# Altium schematic symbol library Discrete_Inductor.SchLib: 31 symbols
Pins are listed as number, name and electrical type; pins without a type are passive.

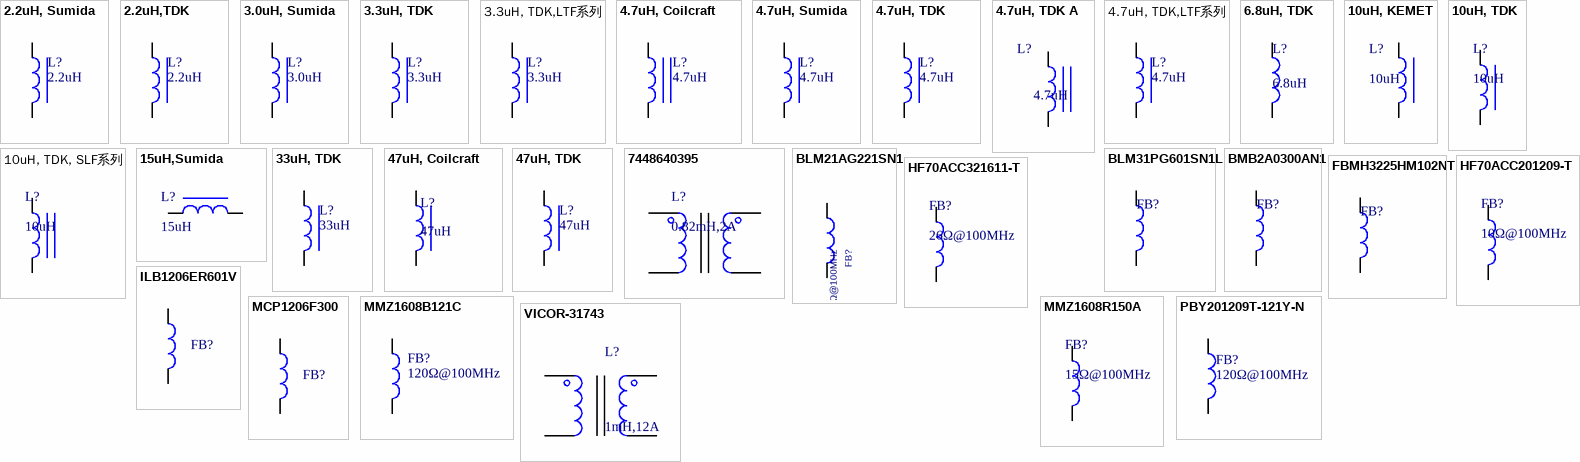
[diagram p0: symbols 2.2uH, Sumida to VICOR-31743]

## 2.2uH, Sumida
designator L?, comment 2.2uH
功率电感, 2.2uH, 31.3mΩ, 2.04A, 30%,5x5mm; Manufacturer: sumida; Ordering NO.: CDRH4D28NP-2R2NC; Name: 电感
footprint L5*5 (Footprint not found)
pins: 1, 2

## 2.2uH,TDK
designator L?, comment 2.2uH
功率电感, 2.2uH, 0.076Ω, 1.5A, 20%,3.5x3.7mm; Manufacturer: TDK; Ordering NO.: VLF4012AT-2R2M1R5; Name: 电感; Price: 1.5
footprint L3.5*3.7 (磁罐电感3.5*3.7mm厚1.2mm表贴电感)
pins: 1, 2

## 3.0uH, Sumida
designator L?, comment 3.0uH
功率电感, 3.0uH, 24mΩ, 2.4A, 30%,6x6mm(MAX); Manufacturer: sumida; Ordering NO.: CDRH5D28NP-3R0NC; Name: 电感
footprint L6*6 (Footprint not found)
pins: 1, 2

## 3.3uH, TDK
designator L?, comment 3.3uH
功率电感, 3.3uH, 0.1Ω, 1.3A, 20%,3.5x3.7mm; Manufacturer: TDK; Ordering NO.: VLF4012AT-3R3M1R3; Tips: 1A型%20,3.5x3.7mm; Name: 电感; Price: 1.5; 物料替代型号: n/a
footprint L3.5*3.7 (磁罐电感3.5*3.7mm厚1.2mm表贴电感)
pins: 1, 2

## 3.3uH, TDK,LTF系列
designator L?, comment 3.3uH
功率电感, 3.3uH, 0.1Ω, 1.3A, 20%,3.5x3.7mm; Manufacturer: TDK; Ordering NO.: LTF5022T-3R3N2R5-LC; Name: 电感
footprint L5.0*5.2 (Footprint not found)
pins: 1, 2

## 4.7uH, Coilcraft
designator L?, comment 4.7uH
功率电感, 4.7uH, 43mΩ, 方形罐装6.1 × 6.1 mm; Manufacturer: Coilcraft; Ordering NO.: MSS6132-472ML; Name: 电感
footprint L6.1*6.1 (Footprint not found)
pins: 1, 2

## 4.7uH, Sumida
designator L?, comment 4.7uH
功率电感, 4.7uH, 72mΩ, 1.32A, 30%,5x5mm; Manufacturer: sumida; Ordering NO.: CDRH4D28NP-4R7NC; Name: 电感
footprint L5*5 (Footprint not found)
pins: 1, 2

## 4.7uH, TDK
designator L?, comment 4.7uH
功率电感, 4.7uH, 0.14Ω, 1.1A, 3.5x3.7mm; Manufacturer: TDK; Ordering NO.: VLF4012AT-4R7M1R1; Tips: 1A型%20,3.5x3.7mm; Name: 电感; Price: 1.5; 物料替代型号: n/a
footprint L3.5*3.7 (磁罐电感3.5*3.7mm厚1.2mm表贴电感)
pins: 1, 2

## 4.7uH, TDK A
designator L?, comment 4.7uH
功率电感, 4.7uH, 方形罐装 7.1mm × 6.1 mm; Manufacturer: TDK; Ordering NO.: SPM6530T4R7M230; Name: 电感
footprint L 7.1*6.5
pins: 1, 2

## 4.7uH, TDK,LTF系列
designator L?, comment 4.7uH
功率电感, 4.7uH, 0.14Ω, 1.1A, 3.5x3.7mm; Manufacturer: TDK; Ordering NO.: LTF5022T-4R7N2R0-LC; Name: 电感
footprint L5.0*5.2 (Footprint not found)
pins: 1, 2

## 6.8uH, TDK
designator L?, comment 6.8uH
Manufacturer: muRata; Ordering NO.: LQM31PN4R7M00; Name: 电感
footprint L1206 (贴片磁珠1206, 120 x 60 mil)
pins: 1, 2

## 10uH, KEMET
designator L?, comment 10uH
片式电感, 10uH, ±20%, 1.2Ω, 0.24A, 0805; Manufacturer: KEMET; Ordering NO.: L0805C100MDWIT; Tips: 10uH电源用电感; Name: 电感
footprint L0805 (贴片电感或磁珠0805,80 x 50mil)
pins: 1, 2

## 10uH, TDK
designator L?, comment 10uH
功率电感, 10uH, 1.15Ω, 0.4A; Manufacturer: TDK; Ordering NO.: VLS201610ET-100M; Name: 电感
footprint L0806 (2mmX1.6mm)
pins: 1, 2

## 10uH, TDK, SLF系列
designator L?, comment 10uH
功率电感, 10uH, 0.0364Ω, 2.5A, 10.1mmx10.1mm; Manufacturer: TDK; Ordering NO.: SLF10145T-100M2R5-PF; Name: 电感
footprint L10.1*10.1 (10.1mmX10.1mm)
pins: 1, 2

## 15uH,Sumida
designator L?, comment 15uH
功率电感, 15uH,  41mΩ, 3.4A, 方形罐装, 10.3mm × 10.5mm; Manufacturer: Sumida; Ordering NO.: CDRH105R-150; Name: 电感
footprint L10.3*10.5 (sumida公司功率电感封装)
pins: 1, 2

## 33uH, TDK
designator L?, comment 33uH
功率电感, 33uH, 1.2Ω, 0.44A, 3.5x3.7mm; Manufacturer: TDK; Ordering NO.: VLF4012AT-330MR39; Tips: 1A型%20,3.5x3.7mm; Name: 电感; Price: 1.5; 物料替代型号: n/a
footprint L3.5*3.7 (磁罐电感3.5*3.7mm厚1.2mm表贴电感)
pins: 1, 2

## 47uH, Coilcraft
designator L?, comment 47uH
功率电感, 47uH, 0.1Ω, 1.85A, 方形罐装; Manufacturer: Coilcraft; Ordering NO.: MMS1206-473MXD/B; Name: 电感; Price: 0.21
footprint L0805 (贴片电感或磁珠0805,80 x 50mil)
pins: 1, 2

## 47uH, TDK
designator L?, comment 47uH
功率电感, 47uH, 0.2Ω, 0.36A, 3.5x3.7mm; Manufacturer: TDK; Ordering NO.: VLF4012AT-470MR30; Tips: 1A型%20,3.5x3.7mm; Name: 电感; Price: 1.5; 物料替代型号: n/a
footprint L3.5*3.7 (磁罐电感3.5*3.7mm厚1.2mm表贴电感)
pins: 1, 2

## 7448640395
designator L?, comment 0.82mH,2A
共模电感,0.82mH,2A,Current Compensated Choke; Manufacturer: WE; Ordering No.: 7448640395; Name: 共模电感
footprint INDC-13
pins: 1, 2, 3, 4

## BLM21AG221SN1
designator FB?, comment 220Ω@100MHz
磁珠,IND - SMD EMI Filters/Chip Ferrite Bead, 220Ω(Impedance) @ 100MHz, 0.35Ω (DC Resistance),0805; Manufacturer: Murata; Ordering NO.: BLM21AG221SN1; Item Num: P04-16225R; RoHS Compliant: Yes; Price: 0; Name: 磁珠
footprint L0805 (贴片电感或磁珠0805,80 x 50mil)
pins: 1, 2

## BLM31PG601SN1L
designator FB?, comment 600Ω@100MHz  (value not drawn)
高电流片式电源线磁珠, 600Ω(Impedance)@100MHz,  0.09Ω(DC Resistance), 1.5A, 1206; Manufacturer: Murata; Ordering NO.: BLM31PG601SN1L; Name: 磁珠
footprint L1206 (贴片电感或磁珠1206, 120 x 60 mil)
pins: 1, 2

## BMB2A0300AN1
designator FB?, comment 300Ω@100MHz  (value not drawn)
磁珠, 300Ω(Impedance)@100MHz,  0.5Ω(DC Resistance), 250mA, 0805; Manufacturer: TE; Ordering NO.: BMB2A0300AN1; Tips: 配合AD5422使用; Name: 磁珠
footprint L0805 (贴片电感或磁珠0805,80 x 50mil)
pins: 1, 2

## FBMH3225HM102NT
designator FB?, comment 1000Ω@100MHz  (value not drawn)
高电流片式电源线磁珠, 1000Ω(Impedance)@100MHz,  0.1Ω(DC Resistance), 2A, 1210; Manufacturer: Taiyo Yuden; Ordering NO.: FBMH3225HM102NT; Tips: 配合AD5422使用; Name: 磁珠
footprint L1210 (Footprint not found)
pins: 1, 2

## HF70ACC201209-T
designator FB?, comment 10Ω@100MHz
磁珠, 10Ω(Impedance)@100MHz, 0.03Ω(DC resistance),1.5A, 0805; Manufacturer: TDK; 物料替代型号: HF50ACC201209; Ordering NO.: HF70ACC201209-T; Tips: 电源型26R@100MHz,40mR,1.5A,2000/卷; Price: 0.80; Name: 磁珠
footprint L0805 (贴片电感或磁珠0805,80 x 50mil)
pins: 1, 2

## HF70ACC321611-T
designator FB?, comment 26Ω@100MHz
磁珠, 26Ω(Impedance)@100MHz, 0.04Ω(DC resistance),1.5A, 1206; Manufacturer: TDK; Ordering NO.: HF70ACC321611-T; Tips: 电源型26R@100MHz,40mR,1.5A,; Price: 0.80; 物料替代型号: n/a; Name: 磁珠
footprint L1206 (贴片磁珠1206, 120 x 60 mil)
pins: 1, 2

## ILB1206ER601V
designator FB?, comment 600Ω@100MHz  (value not drawn)
磁珠, 600Ω(Impedance)@100MHz,1206; Manufacturer: VISHAY; Ordering NO.: ILB1206ER601V; Name: 磁珠
footprint L1206 (贴片磁珠1206, 120 x 60 mil)
pins: 1, 2

## MCP1206F300
designator FB?, comment 30Ω@100MHz  (value not drawn)
磁珠, 30Ω(Impedance)@100MHz, 0.02Ω(DC resistance), 4A, 1206; Manufacturer: AEM; Ordering NO.: MCP1206F300; Name: 磁珠
footprint L1206 (Footprint not found)
pins: 1, 2

## MMZ1608B121C
designator FB?, comment 120Ω@100MHz
磁珠, 120Ω(Impedance)@100MHz,0.15Ω(DC resistance), 0.6A,0603; Manufacturer: TDK; Ordering NO.: MMZ1608B121C; Price: 0.21; Name: 磁珠
footprint L0603 (贴边电感0603或磁珠,60 x 30 mil)
pins: 1, 2

## MMZ1608R150A
designator FB?, comment 15Ω@100MHz
磁珠, 15Ω(Impedance)@100MHz, 0.05Ω(DC resistance),1.5A, 0603; Manufacturer: TDK; 物料替代型号: MMZ1608R300A/0603; Ordering NO.: MMZ1608R150A; Tips: 电源型15R@100MHz,50mR,1.5A,2000/卷; Price: 0.80; Name: 磁珠
footprint L0603 (贴边电感0603或磁珠,60 x 30 mil)
pins: 1, 2

## PBY201209T-121Y-N
designator FB?, comment 120Ω@100MHz
磁珠, 120Ω(Impedance)@100MHz, 0.04Ω(DC resistance), 3A, 0805; Manufacturer: YAGEO CORPORATION; Ordering NO.: PBY201209T-121Y-N; Name: 磁珠
footprint L0805
pins: 1, 2

## VICOR-31743
designator L?, comment 1mH,12A
共模电感 1mH 12A; Manufacturer: VICOR; Ordering NO.: VICOR-31743; Name: 共模电感
footprint INDC-15
pins: 1, 2, 3, 4